# Altium footprint library WR-RAST.PcbLib: 34 footprints (part 2 of 3)
Each footprint in its own frame and in the unit in brackets; x right, y up, seen from the top. Pads: shape width x height; smd on the part's side, far side on the other; paste and mask are expansions set on the pad; w line width, h text height; cw(c..) or ccw(c..) is an arc to the next point about the centre after c.
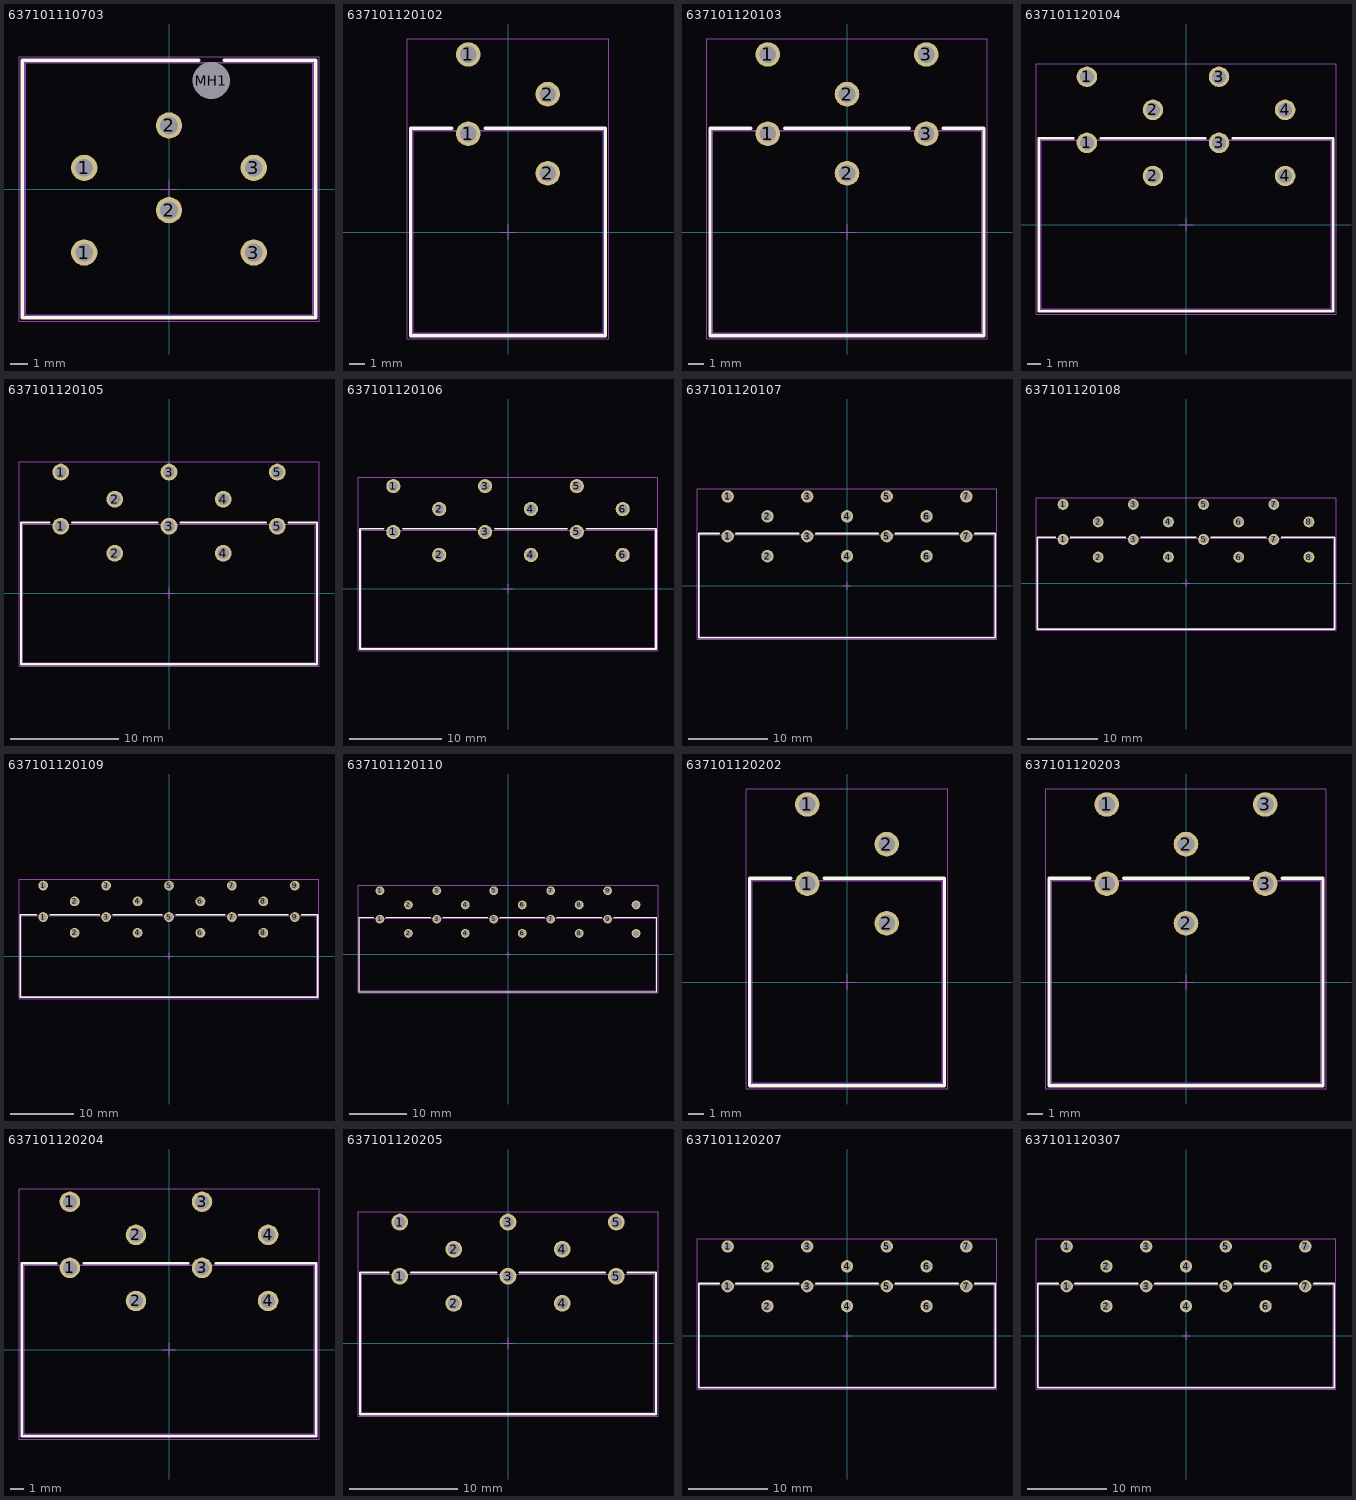
[diagram p1: the footprints below, top view; thin cyan lines are the x and y axes]

## 637101110703 [mm] "THT Vertical Male Header, pitch 5mm, 3p"
height 12.8
pads (7):
  round 1.55 hole 1.05: 1(-5,-3.75) 1(-5,1.25) 2(0,-1.25) 2(0,3.75) 3(5,-3.75) 3(5,1.25)
  round 2 hole 2.2 unplated: MH1(2.5,6.4)
Top Overlay:
  lines w0.2: 1.75,7.6 -8.65,7.6 -8.65,-7.6 8.65,-7.6 8.65,7.6 3.25,7.6
Top Component Outline:
  lines w0.1: -8.5,-7.45 8.5,-7.45 8.5,7.45 -8.5,7.45 -8.5,-7.45
Top Courtyard:
  lines w0.05: -8.85,-7.8 8.85,-7.8 8.85,7.8 -8.85,7.8 -8.85,-7.8
Top Component Center:
  lines w0.05: -0.5,0 0.5,0 ; 0,-0.5 0,0.5
Top Designator (Mech19):
  text ".Designator" at -7.498,-0.5 h1.5
3D body "637101110703.stp": height 12.85, standoff -3.55, extent -8.5,-7.45 8.5,7.45

## 637101120102 [mm] "THT Horizontal Male Header, pitch 5mm, 2p"
height 14.9
pads (4):
  round 1.55 hole 1.05: 1(-2.5,6.201) 1(-2.5,11.201) 2(2.5,3.701) 2(2.5,8.701)
Top Overlay:
  lines w0.2: -3.55,6.55 -6.15,6.55 -6.15,-6.55 6.15,-6.55 6.15,6.55 -1.45,6.55
Top Component Outline:
  lines w0.1: -6,-6.4 -6,6.4 6,6.4 6,-6.4 -6,-6.4
Top Courtyard:
  lines w0.05: -6.35,-6.75 -6.35,12.176 6.35,12.176 6.35,-6.75 -6.35,-6.75
Top Component Center:
  lines w0.05: -0.5,0 0.5,0 ; 0,-0.5 0,0.5
Top Designator (Mech19):
  text ".Designator" at -7.498,-0.5 h1.5
3D body "637101120102.stp": height 15.45, standoff -3.45, extent -6.001,-6.4 6.001,11.601

## 637101120103 [mm] "THT Horizontal Male Header, pitch 5mm, 3p"
height 14.9
pads (6):
  round 1.55 hole 1.05: 1(-5,6.201) 1(-5,11.201) 2(0,3.701) 2(0,8.701) 3(5,6.201) 3(5,11.201)
Top Overlay:
  lines w0.2: -6.05,6.55 -8.65,6.55 -8.65,-6.55 8.65,-6.55 8.65,6.55 6.05,6.55 ; -3.95,6.55 3.95,6.55
Top Component Outline:
  lines w0.1: -8.5,-6.4 -8.5,6.4 8.5,6.4 8.5,-6.4 -8.5,-6.4
Top Courtyard:
  lines w0.05: -8.85,-6.75 -8.85,12.176 8.85,12.176 8.85,-6.75 -8.85,-6.75
Top Component Center:
  lines w0.05: -0.5,0 0.5,0 ; 0,-0.5 0,0.5
Top Designator (Mech19):
  text ".Designator" at -7.498,-0.5 h1.5
3D body "637101120103.stp": height 15.45, standoff -3.45, extent -8.501,-6.401 8.501,11.601

## 637101120104 [mm] "THT Horizontal Male Header, pitch 5mm, 4p"
height 14.9
pads (8):
  round 1.55 hole 1.05: 1(-7.5,6.201) 1(-7.5,11.201) 2(-2.5,3.701) 2(-2.5,8.701) 3(2.5,6.201) 3(2.5,11.201) 4(7.5,3.701) 4(7.5,8.701)
Top Overlay:
  lines w0.2: -8.55,6.55 -11.15,6.55 -11.15,-6.55 11.15,-6.55 11.15,6.55 3.55,6.55 ; -6.45,6.55 1.45,6.55
Top Component Outline:
  lines w0.1: -11,-6.4 11,-6.4 11,6.4 -11,6.4 -11,-6.4
Top Courtyard:
  lines w0.05: -11.35,-6.75 11.35,-6.75 11.35,12.176 -11.35,12.176 -11.35,-6.75
Top Component Center:
  lines w0.05: -0.5,0 0.5,0 ; 0,-0.5 0,0.5
Top Designator (Mech19):
  text ".Designator" at -7.498,-0.5 h1.5
3D body "637101120104.stp": height 15.45, standoff -3.45, extent -11.001,-6.401 11.001,11.601

## 637101120105 [mm] "THT Horizontal Male Header, pitch 5mm, 5p"
height 14.9
pads (10):
  round 1.55 hole 1.05: 1(-10,6.201) 1(-10,11.201) 2(-5,3.701) 2(-5,8.701) 3(0,6.201) 3(0,11.201) 4(5,3.701) 4(5,8.701) 5(10,6.201) 5(10,11.201)
Top Overlay:
  lines w0.2: -11.05,6.55 -13.65,6.55 -13.65,-6.55 13.65,-6.55 13.65,6.55 11.05,6.55 ; -8.95,6.55 -1.05,6.55 ; 1.05,6.55 8.95,6.55
Top Component Outline:
  lines w0.1: -13.5,-6.4 -13.5,6.4 13.5,6.4 13.5,-6.4 -13.5,-6.4
Top Courtyard:
  lines w0.05: -13.85,-6.75 -13.85,12.176 13.85,12.176 13.85,-6.75 -13.85,-6.75
Top Component Center:
  lines w0.05: -0.5,0 0.5,0 ; 0,-0.5 0,0.5
Top Designator (Mech19):
  text ".Designator" at -7.498,-0.5 h1.5
3D body "637101120105.stp": height 15.45, standoff -3.45, extent -13.501,-6.402 13.501,11.601

## 637101120106 [mm] "THT Horizontal Male Header, pitch 5mm, 6p"
height 14.9
pads (12):
  round 1.55 hole 1.05: 1(-12.5,6.201) 1(-12.5,11.201) 2(-7.5,3.701) 2(-7.5,8.701) 3(-2.5,6.201) 3(-2.5,11.201) 4(2.5,3.701) 4(2.5,8.701) 5(7.5,6.201) 5(7.5,11.201) 6(12.5,3.701) 6(12.5,8.701)
Top Overlay:
  lines w0.2: -13.55,6.55 -16.15,6.55 -16.15,-6.55 16.15,-6.55 16.15,6.55 8.55,6.55 ; -11.45,6.55 -3.55,6.55 ; -1.45,6.55 6.45,6.55
Top Component Outline:
  lines w0.1: -16,-6.4 16,-6.4 16,6.4 -16,6.4 -16,-6.4
Top Courtyard:
  lines w0.05: -16.35,-6.75 16.35,-6.75 16.35,12.176 -16.35,12.176 -16.35,-6.75
Top Component Center:
  lines w0.05: -0.5,0 0.5,0 ; 0,-0.5 0,0.5
Top Designator (Mech19):
  text ".Designator" at -7.498,-0.5 h1.5
3D body "637101120106.stp": height 15.45, standoff -3.45, extent -16.001,-6.403 16.001,11.601

## 637101120107 [mm] "THT Horizontal Male Header, pitch 5mm, 7p"
height 14.9
pads (14):
  round 1.55 hole 1.05: 1(-15,6.201) 1(-15,11.201) 2(-10,3.701) 2(-10,8.701) 3(-5,6.201) 3(-5,11.201) 4(0,3.701) 4(0,8.701) 5(5,6.201) 5(5,11.201) 6(10,3.701) 6(10,8.701) 7(15,6.201) 7(15,11.201)
Top Overlay:
  lines w0.2: -16.05,6.55 -18.65,6.55 -18.65,-6.55 18.65,-6.55 18.65,6.55 16.05,6.55 ; -13.95,6.55 -6.05,6.55 ; -3.95,6.55 3.95,6.55 ; 6.05,6.55 13.95,6.55
Top Component Outline:
  lines w0.1: -18.5,-6.4 -18.5,6.4 18.5,6.4 18.5,-6.4 -18.5,-6.4
Top Courtyard:
  lines w0.05: -18.85,-6.75 -18.85,12.176 18.85,12.176 18.85,-6.75 -18.85,-6.75
Top Component Center:
  lines w0.05: -0.5,0 0.5,0 ; 0,-0.5 0,0.5
Top Designator (Mech19):
  text ".Designator" at -7.498,-0.5 h1.5
3D body "637101120107.stp": height 15.45, standoff -3.45, extent -18.501,-6.403 18.501,11.601

## 637101120108 [mm] "THT Horizontal Male Header, pitch 5mm, 8p"
height 14.9
pads (16):
  round 1.55 hole 1.05: 1(-17.5,6.201) 1(-17.5,11.201) 2(-12.5,3.701) 2(-12.5,8.701) 3(-7.5,6.201) 3(-7.5,11.201) 4(-2.5,3.701) 4(-2.5,8.701) 5(2.5,6.201) 5(2.5,11.201) 6(7.5,3.701) 6(7.5,8.701) 7(12.5,6.201) 7(12.5,11.201) 8(17.5,3.701) 8(17.5,8.701)
Top Overlay:
  lines w0.2: -18.55,6.55 -21.15,6.55 -21.15,-6.55 21.15,-6.55 21.15,6.55 13.55,6.55 ; -16.45,6.55 -8.55,6.55 ; -6.45,6.55 1.45,6.55 ; 3.55,6.55 11.45,6.55
Top Component Outline:
  lines w0.1: -21,-6.4 21,-6.4 21,6.4 -21,6.4 -21,-6.4
Top Courtyard:
  lines w0.05: -21.35,-6.75 21.35,-6.75 21.35,12.176 -21.35,12.176 -21.35,-6.75
Top Component Center:
  lines w0.05: -0.5,0 0.5,0 ; 0,-0.5 0,0.5
Top Designator (Mech19):
  text ".Designator" at -7.498,-0.5 h1.5
3D body "637101120108.stp": height 15.45, standoff -3.45, extent -21.001,-6.404 21.001,11.601

## 637101120109 [mm] "THT Horizontal Male Header, pitch 5mm, 9p"
height 14.9
pads (18):
  round 1.55 hole 1.05: 1(-20,6.201) 1(-20,11.201) 2(-15,3.701) 2(-15,8.701) 3(-10,6.201) 3(-10,11.201) 4(-5,3.701) 4(-5,8.701) 5(0,6.201) 5(0,11.201) 6(5,3.701) 6(5,8.701) 7(10,6.201) 7(10,11.201) 8(15,3.701) 8(15,8.701) 9(20,6.201) 9(20,11.201)
Top Overlay:
  lines w0.2: -21.05,6.55 -23.65,6.55 -23.65,-6.55 23.65,-6.55 23.65,6.55 21.05,6.55 ; -18.95,6.55 -11.05,6.55 ; -8.95,6.55 -1.05,6.55 ; 1.05,6.55 8.95,6.55 ; 11.05,6.55 18.95,6.55
Top Component Outline:
  lines w0.1: -23.5,-6.4 23.5,-6.4 23.5,6.4 -23.5,6.4 -23.5,-6.4
Top Courtyard:
  lines w0.05: -23.85,-6.75 23.85,-6.75 23.85,12.176 -23.85,12.176 -23.85,-6.75
Top Component Center:
  lines w0.05: -0.5,0 0.5,0 ; 0,-0.5 0,0.5
Top Designator (Mech19):
  text ".Designator" at -7.498,-0.5 h1.5
3D body "637101120109.stp": height 15.45, standoff -3.45, extent -23.501,-6.404 23.501,11.601

## 637101120110 [mm] "THT Horizontal Male Header, pitch 5mm, 10p"
height 14.9
pads (20):
  round 1.55 hole 1.05: 1(-22.5,6.201) 1(-22.5,11.201) 2(-17.5,3.701) 2(-17.5,8.701) 3(-12.5,6.201) 3(-12.5,11.201) 4(-7.5,3.701) 4(-7.5,8.701) 5(-2.5,6.201) 5(-2.5,11.201) 6(2.5,3.701) 6(2.5,8.701) 7(7.5,6.201) 7(7.5,11.201) 8(12.5,3.701) 8(12.5,8.701) 9(17.5,6.201) 9(17.5,11.201) 10(22.5,3.701) 10(22.5,8.701)
Top Overlay:
  lines w0.2: -23.55,6.55 -26.15,6.55 -26.15,-6.55 26.15,-6.55 26.15,6.55 18.55,6.55 ; -21.45,6.55 -13.55,6.55 ; -11.45,6.55 -3.55,6.55 ; -1.45,6.55 6.45,6.55 ; 8.55,6.55 16.45,6.55
Top Component Outline:
  lines w0.1: -26,-6.4 26,-6.4 26,6.4 -26,6.4 -26,-6.4
Top Courtyard:
  lines w0.05: -26.35,-6.75 26.35,-6.75 26.35,12.176 -26.35,12.176 -26.35,-6.75
Top Component Center:
  lines w0.05: -0.5,0 0.5,0 ; 0,-0.5 0,0.5
Top Designator (Mech19):
  text ".Designator" at -7.498,-0.5 h1.5
3D body "637101120110.stp": height 15.45, standoff -3.45, extent -26.001,-6.405 26.001,11.601

## 637101120202 [mm] "THT Horizontal Male Header, pitch 5mm, 2p"
height 14.9
pads (4):
  round 1.55 hole 1.05: 1(-2.5,6.201) 1(-2.5,11.201) 2(2.5,3.701) 2(2.5,8.701)
Top Overlay:
  lines w0.2: -3.55,6.55 -6.15,6.55 -6.15,-6.55 6.15,-6.55 6.15,6.55 -1.45,6.55
Top Component Outline:
  lines w0.1: -6,-6.4 -6,6.4 6,6.4 6,-6.4 -6,-6.4
Top Courtyard:
  lines w0.05: -6.35,-6.75 -6.35,12.176 6.35,12.176 6.35,-6.75 -6.35,-6.75
Top Component Center:
  lines w0.05: -0.5,0 0.5,0 ; 0,-0.5 0,0.5
Top Designator (Mech19):
  text ".Designator" at -7.498,-0.5 h1.5
3D body "637101120202.stp": height 15.45, standoff -3.45, extent -6.001,-6.4 6.001,11.601

## 637101120203 [mm] "THT Horizontal Male Header, pitch 5mm, 3p"
height 14.9
pads (6):
  round 1.55 hole 1.05: 1(-5,6.201) 1(-5,11.201) 2(0,3.701) 2(0,8.701) 3(5,6.201) 3(5,11.201)
Top Overlay:
  lines w0.2: -6.05,6.55 -8.65,6.55 -8.65,-6.55 8.65,-6.55 8.65,6.55 6.05,6.55 ; -3.95,6.55 3.95,6.55
Top Component Outline:
  lines w0.1: -8.5,-6.4 -8.5,6.4 8.5,6.4 8.5,-6.4 -8.5,-6.4
Top Courtyard:
  lines w0.05: -8.85,-6.75 -8.85,12.176 8.85,12.176 8.85,-6.75 -8.85,-6.75
Top Component Center:
  lines w0.05: -0.5,0 0.5,0 ; 0,-0.5 0,0.5
Top Designator (Mech19):
  text ".Designator" at -7.498,-0.5 h1.5
3D body "637101120203.stp": height 15.45, standoff -3.45, extent -8.501,-6.401 8.501,11.601

## 637101120204 [mm] "THT Horizontal Male Header, pitch 5mm, 4p"
height 14.9
pads (8):
  round 1.55 hole 1.05: 1(-7.5,6.201) 1(-7.5,11.201) 2(-2.5,3.701) 2(-2.5,8.701) 3(2.5,6.201) 3(2.5,11.201) 4(7.5,3.701) 4(7.5,8.701)
Top Overlay:
  lines w0.2: -8.55,6.55 -11.15,6.55 -11.15,-6.55 11.15,-6.55 11.15,6.55 3.55,6.55 ; -6.45,6.55 1.45,6.55
Top Component Outline:
  lines w0.1: -11,-6.4 11,-6.4 11,6.4 -11,6.4 -11,-6.4
Top Courtyard:
  lines w0.05: -11.35,-6.75 11.35,-6.75 11.35,12.176 -11.35,12.176 -11.35,-6.75
Top Component Center:
  lines w0.05: -0.5,0 0.5,0 ; 0,-0.5 0,0.5
Top Designator (Mech19):
  text ".Designator" at -7.498,-0.5 h1.5
3D body "637101120204.stp": height 15.45, standoff -3.45, extent -11.001,-6.401 11.001,11.601

## 637101120205 [mm] "THT Horizontal Male Header, pitch 5mm, 5p"
height 14.9
pads (10):
  round 1.55 hole 1.05: 1(-10,6.201) 1(-10,11.201) 2(-5,3.701) 2(-5,8.701) 3(0,6.201) 3(0,11.201) 4(5,3.701) 4(5,8.701) 5(10,6.201) 5(10,11.201)
Top Overlay:
  lines w0.2: -11.05,6.55 -13.65,6.55 -13.65,-6.55 13.65,-6.55 13.65,6.55 11.05,6.55 ; -8.95,6.55 -1.05,6.55 ; 1.05,6.55 8.95,6.55
Top Component Outline:
  lines w0.1: -13.5,-6.4 -13.5,6.4 13.5,6.4 13.5,-6.4 -13.5,-6.4
Top Courtyard:
  lines w0.05: -13.85,-6.75 -13.85,12.176 13.85,12.176 13.85,-6.75 -13.85,-6.75
Top Component Center:
  lines w0.05: -0.5,0 0.5,0 ; 0,-0.5 0,0.5
Top Designator (Mech19):
  text ".Designator" at -7.498,-0.5 h1.5
3D body "637101120205.stp": height 15.45, standoff -3.45, extent -13.501,-6.402 13.501,11.601

## 637101120207 [mm] "THT Horizontal Male Header, pitch 5mm, 7p"
height 14.9
pads (14):
  round 1.55 hole 1.05: 1(-15,6.201) 1(-15,11.201) 2(-10,3.701) 2(-10,8.701) 3(-5,6.201) 3(-5,11.201) 4(0,3.701) 4(0,8.701) 5(5,6.201) 5(5,11.201) 6(10,3.701) 6(10,8.701) 7(15,6.201) 7(15,11.201)
Top Overlay:
  lines w0.2: -16.05,6.55 -18.65,6.55 -18.65,-6.55 18.65,-6.55 18.65,6.55 16.05,6.55 ; -13.95,6.55 -6.05,6.55 ; -3.95,6.55 3.95,6.55 ; 6.05,6.55 13.95,6.55
Top Component Outline:
  lines w0.1: -18.5,-6.4 18.5,-6.4 18.5,6.4 -18.5,6.4 -18.5,-6.4
Top Courtyard:
  lines w0.05: -18.85,-6.75 18.85,-6.75 18.85,12.176 -18.85,12.176 -18.85,-6.75
Top Component Center:
  lines w0.05: -0.5,0 0.5,0 ; 0,-0.5 0,0.5
Top Designator (Mech19):
  text ".Designator" at -7.498,-0.5 h1.5
3D body "637101120207.stp": height 15.45, standoff -3.45, extent -18.501,-6.403 18.501,11.601

## 637101120307 [mm] "THT Horizontal Male Header, pitch 5mm, 7p"
height 14.9
pads (14):
  round 1.55 hole 1.05: 1(-15,6.201) 1(-15,11.201) 2(-10,3.701) 2(-10,8.701) 3(-5,6.201) 3(-5,11.201) 4(0,3.701) 4(0,8.701) 5(5,6.201) 5(5,11.201) 6(10,3.701) 6(10,8.701) 7(15,6.201) 7(15,11.201)
Top Overlay:
  lines w0.2: -16.05,6.55 -18.65,6.55 -18.65,-6.55 18.65,-6.55 18.65,6.55 16.05,6.55 ; -13.95,6.55 -6.05,6.55 ; -3.95,6.55 3.95,6.55 ; 6.05,6.55 13.95,6.55
Top Component Outline:
  lines w0.1: -18.5,-6.4 18.5,-6.4 18.5,6.4 -18.5,6.4 -18.5,-6.4
Top Courtyard:
  lines w0.05: -18.85,-6.75 18.85,-6.75 18.85,12.176 -18.85,12.176 -18.85,-6.75
Top Component Center:
  lines w0.05: -0.5,0 0.5,0 ; 0,-0.5 0,0.5
Top Designator (Mech19):
  text ".Designator" at -7.498,-0.5 h1.5
3D body "637101120307.stp": height 15.45, standoff -3.45, extent -18.501,-6.403 18.501,11.601